# Altium schematic symbol library Inductors.SchLib: 12 symbols
Pins are listed as number, name and electrical type; pins without a type are passive.

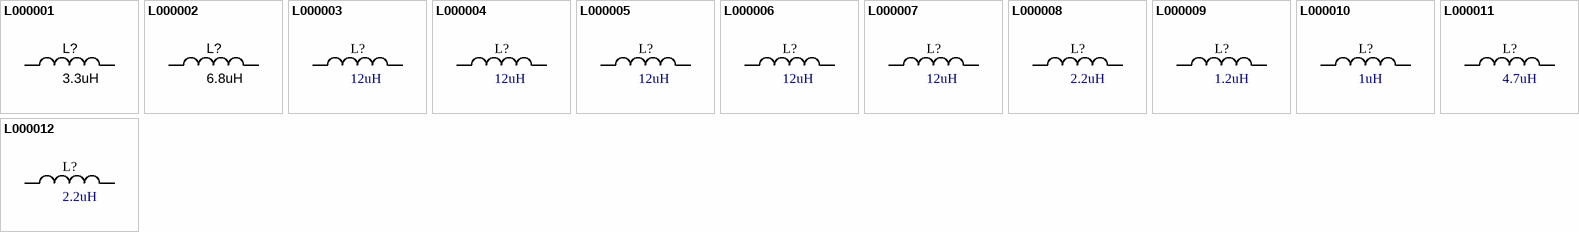
[diagram p0: symbols L000001 to L000012]

## L000001
designator L?, comment 3.3uH
IND 3.3uH 8A 20.9mOHM 12A ISAT; inductanse: 3.3uH; ComponentLink1Description: digikey; ComponentLink1URL: https://www.digikey.com/en/products/detail/bourns-inc/SRP7050TA-3R3M/5429687
pins: 1, 2

## L000002
designator L?, comment 6.8uH
IND 6.8uH 8A 23.3mOHM 13.5A ISAT; inductanse: 6.8uH; ComponentLink1Description: digikey; ComponentLink1URL: https://www.digikey.com/en/products/detail/vishay-dale/IHLP4040DZER6R8M01/1220696
footprint INDM108103X40N (Molded Inductor, 2-Leads, Body 10.80x10.31mm, IPC Medium Density)
pins: 1, 2

## L000003
designator L?, comment 12uH
FIXED IND 12UH 5.6A 28 MOHM SMD; inductance: 12uH; DigiKey Part Number: SRR1280-120MCT-ND; ComponentLink1Description: DigiKey; ComponentLink1URL: https://www.digikey.com/en/products/detail/bourns-inc/SRR1280-120M/1969993
footprint INDM125125X75N (Molded Inductor, 2-Leads, Body 12.50x12.50mm, IPC Medium Density)
pins: 1, 2

## L000004
designator L?, comment 12uH
FIXED IND 12UH 4.8A 25 MOHM SMD; ComponentLink1Description: DigiKey; ComponentLink1URL: https://www.digikey.com/en/products/detail/bourns-inc/SRR1208-120ML/2562317; inductance: 12uH; DigiKey Part Number: SRR1208-120MLCT-ND
footprint INDM127127X85N (Molded Inductor, 2-Leads, Body 12.70x12.70mm, IPC Medium Density)
pins: 1, 2

## L000005
designator L?, comment 12uH
FIXED IND 12UH 6.3A 22 MOHM SMD; inductance: 12uH; DigiKey Part Number: SRR1210-120MCT-ND; ComponentLink1Description: DigiKey; ComponentLink1URL: https://www.digikey.com/en/products/detail/bourns-inc/SRR1210-120M/2562342
footprint INDM120120X100N (Molded Inductor, 2-Leads, Body 12.00x12.00mm, IPC Medium Density)
pins: 1, 2

## L000006
designator L?, comment 12uH
FIXED IND 12UH 6.3A 22 MOHM SMD; inductance: 12uH; DigiKey Part Number: SRR1210A-120MCT-ND; ComponentLink1Description: DigiKey; ComponentLink1URL: https://www.digikey.com/en/products/detail/bourns-inc/SRR1210A-120M/5030985
footprint INDM120120X100N (Molded Inductor, 2-Leads, Body 12.00x12.00mm, IPC Medium Density)
pins: 1, 2

## L000007
designator L?, comment 12uH
FIXED IND 12UH 5.9A 24 MOHM SMD; inductance: 12uH; DigiKey Part Number: 732-1224-1-ND; ComponentLink1Description: DigiKey; ComponentLink1URL: https://www.digikey.com/en/products/detail/w%C3%BCrth-elektronik/744770112/1638629
footprint INDM120120X80N (Molded Inductor, 2-Leads, Body 12.00x12.00mm, IPC Medium Density)
pins: 1, 2

## L000008
designator L?, comment 2.2uH
FIXED IND 2.2UH 4A 61 MOHM SMD; inductance: 2.2uH; DigiKey Part Number: SRP4020TA-2R2MCT-ND; ComponentLink1Description: DigiKey; ComponentLink1URL: https://www.digikey.com/en/products/detail/bourns-inc/SRP4020TA-2R2M/4901004?s=N4IgTCBcDaIMoCUAKAWADGNAVAggWjATAFkQBdAXyA
footprint INDM4441X20N (Molded Inductor, 2-Leads, Body 4.45x4.06mm, IPC Medium Density)
pins: 1, 2

## L000009
designator L?, comment 1.2uH
FIXED IND 1.2UH 14A 7.5 MOHM SMD; inductance: 1.2uH; DigiKey Part Number: SRP7050TA-1R2MCT-ND; ComponentLink1Description: DigiKey; ComponentLink1URL: https://www.digikey.com/en/products/detail/bourns-inc/SRP7050TA-1R2M/5429682?s=N4IgTCBcDaIMoCUAKB2ADAVjQFQIIFoBGBMAWRAF0BfIA
footprint INDP7364X50N (Precision Wire Wound Inductor, 2-Leads, Body 7.30x6.45mm, IPC Medium Density)
pins: 1, 2

## L000010
designator L?, comment 1uH
FIXED IND 1UH 12.2A 7.6 MOHM SMD; inductance: 1uH; DigiKey Part Number: SRP5030CA-1R0MCT-ND; ComponentLink1Description: DigiKey; ComponentLink1URL: https://www.digikey.com/en/products/detail/bourns-inc/SRP5030CA-1R0M/9351021
footprint INDP5553X31N (Precision Wire Wound Inductor, 2-Leads, Body 5.50x5.30mm, IPC Medium Density)
pins: 1, 2

## L000011
designator L?, comment 4.7uH
FIXED IND 4.7UH 5.5A 40 MOHM SMD; inductance: 4.7uH; DigiKey Part Number: 541-1010-1-ND; ComponentLink1Description: DigiKey; ComponentLink1URL: https://www.digikey.com/en/products/detail/vishay-dale/IHLP2525CZER4R7M01/1220675
footprint INDP6965X30N (Precision Wire Wound Inductor, 2-Leads, Body 6.86x6.47mm, IPC Medium Density)
pins: 1, 2

## L000012
designator L?, comment 2.2uH
FIXED IND 2.2UH 4.2A 50.1MOHM SM; inductance: 2.2uH; DigiKey Part Number: 541-1088-1-ND; ComponentLink1Description: DigiKey; ComponentLink1URL: https://www.digikey.com/en/products/detail/vishay-dale/IHLP2020BZER2R2M01/1869311?s=N4IgTCBcDaIJIAkAyAFMAGDAhAWgUQCUwiBZdARhAF0BfIA
footprint INDP_518X518
pins: 1, 2